# Altium schematic symbol library 2019-05-28_18-29-28.SchLib: 2 symbols
Pins are listed as number, name and electrical type; pins without a type are passive.

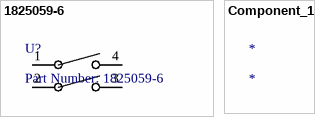
[diagram p0: symbols 1825059-6 to Component_1]

## 1825059-6
designator U?, comment Part Number: 1825059-6
No Description Available; Vendor: TE Connectivity; Built_By: EMA_UL_Team; TYPE_2: Type; Manufacturer_Part_Number: 1825059-6; Copyright: Copyright (C) 2016 Accelerated Designs. All rights reserved; Value: Value
footprint SWSO4_325X138P100
pins: 1, 2, 3, 4

## Component_1
designator *